# Altium schematic symbol library MAX-M10.SchLib: 1 symbol
Pins are listed as number, name and electrical type; pins without a type are passive.

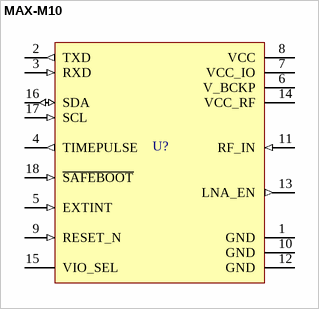
[diagram p0: symbol MAX-M10]

## MAX-M10
designator U?
Standard precision GNSS module
pins: 1 GND (power), 2 TXD (out), 3 RXD (in), 4 TIMEPULSE (out), 5 EXTINT (in), 6 V_BCKP (power), 7 VCC_IO (power), 8 VCC (power), 9 RESET_N (in), 10 GND (power), 11 RF_IN (in), 12 GND (power), 13 LNA_EN (out), 14 VCC_RF (power), 15 VIO_SEL, 16 SDA (io), 17 SCL (in), 18 ~{SAFEBOOT} (in)